# Altium footprint library IC_Broadcom_ACPL-C87A-000E_eec_MFG.PcbLib: 1 footprints
Each footprint in its own frame and in the unit in brackets; x right, y up, seen from the top. Pads: shape width x height; smd on the part's side, far side on the other; paste and mask are expansions set on the pad; w line width, h text height; cw(c..) or ccw(c..) is an arc to the next point about the centre after c.
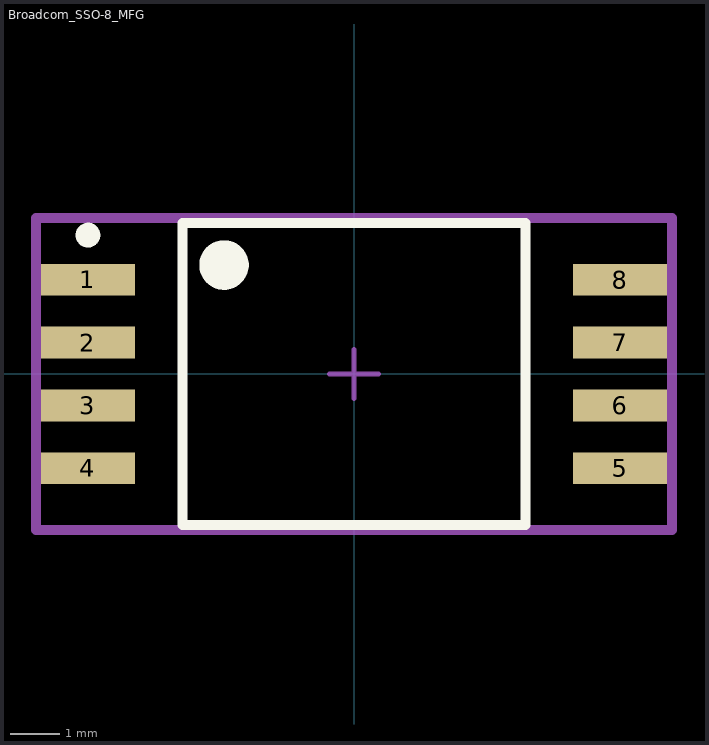
[diagram p0: the footprint, top view; thin cyan lines are the x and y axes]

## Broadcom_SSO-8_MFG [mm]
pads (8):
  rect 1.905x0.64 smd paste+0 mask+0: 1(-5.372,1.905) 2(-5.372,0.635) 3(-5.372,-0.635) 4(-5.372,-1.905) 5(5.372,-1.905) 6(5.372,-0.635) 7(5.372,0.635) 8(5.372,1.905)
Top Overlay:
  circle w0.25: c-5.372,2.805 r0.125
  circle w0.5: c-2.625,2.2 r0.25
  lines w0.2: -3.467,-3.052 3.467,-3.052 3.467,3.052 -3.467,3.052 -3.467,-3.052
Mechanical 10:
  lines w0.2: -6.425,-3.152 6.425,-3.152 6.425,3.152 -6.425,3.152 -6.425,-3.152
  text ".Designator" at 0,0 h1
Mechanical 12:
  lines w0.15: -3.467,-3.052 3.467,-3.052 3.467,3.052 -3.467,3.052 -3.467,-3.052
Mechanical 15:
  lines w0.1: -0.5,0 0.5,0 ; 0,-0.5 0,0.5
  lines w0.2: -6.425,-3.152 6.425,-3.152 6.425,3.152 -6.425,3.152 -6.425,-3.152
3D body "IC_Broadcom_ACPL-C87A-000E_eec.STEP": height 0.25, standoff 0, extent -6.425,-3.152 6.425,3.152